# Altium footprint library ResistorsTPS6513x.PcbLib: 6 footprints
Each footprint in its own frame and in the unit in brackets; x right, y up, seen from the top. Pads: shape width x height; smd on the part's side, far side on the other; paste and mask are expansions set on the pad; w line width, h text height; cw(c..) or ccw(c..) is an arc to the next point about the centre after c.
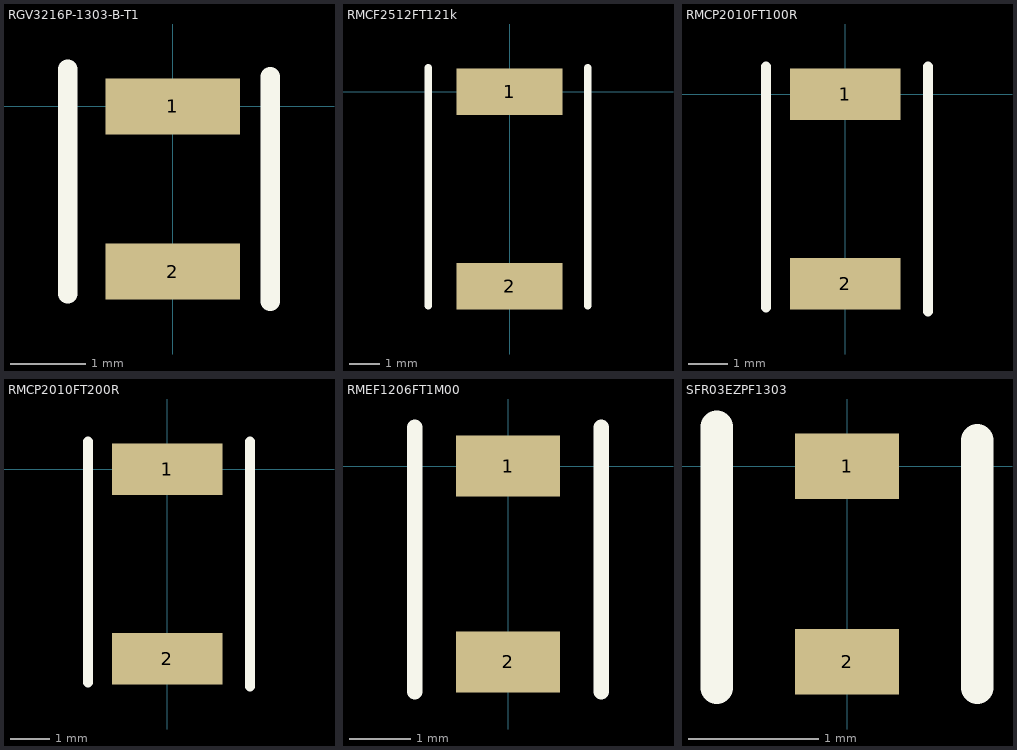
[diagram p0: the footprints below, top view; thin cyan lines are the x and y axes]

## RGV3216P-1303-B-T1 [mm] "130kohm .1% .25W 1/4W 1206"
pads (2):
  rect 1.8x0.75 smd: 1(0,0) 2(0,-2.2)
Top Overlay:
  lines w0.254: -1.4,-2.5 -1.4,0.5 ; 1.3,-2.6 1.3,0.4

## RMCF2512FT121k [mm] "121k ohm RES 1% 1W 2512"
pads (2):
  rect 3.5x1.55 smd: 1(0,0) 2(0,-6.45)
Top Overlay:
  lines w0.254: -2.7,-7.1 -2.7,0.8 ; 2.6,-7.1 2.6,0.8

## RMCP2010FT100R [mm] "100 ohm 1% 1W 2010"
pads (2):
  rect 2.8x1.3 smd: 1(0,0) 2(0,-4.8)
Top Overlay:
  lines w0.254: -2,-5.4 -2,0.7 ; 2.1,-5.5 2.1,0.7

## RMCP2010FT200R [mm] "200 ohm 1% 1W 2010"
pads (2):
  rect 2.8x1.3 smd: 1(0,0) 2(0,-4.8)
Top Overlay:
  lines w0.254: -2,-5.4 -2,0.7 ; 2.1,-5.5 2.1,0.7

## RMEF1206FT1M00 [mm] "RES 1Mohm 1% 1/4W 1206"
pads (2):
  rect 1.7x1 smd: 1(0,0) 2(0,-3.2)
Top Overlay:
  lines w0.254: -1.524,-3.683 -1.524,0.635 ; 1.524,-3.683 1.524,0.635

## SFR03EZPF1303 [mm] "130k 0603"
pads (2):
  rect 0.8x0.5 smd: 1(0,0) 2(0,-1.5)
Top Overlay:
  lines w0.25: -1,-1.7 -1,0.3 ; 1,-1.7 1,0.2